# EAGLE library part MC34844-LED-DRIVER (library LCD Connectors)
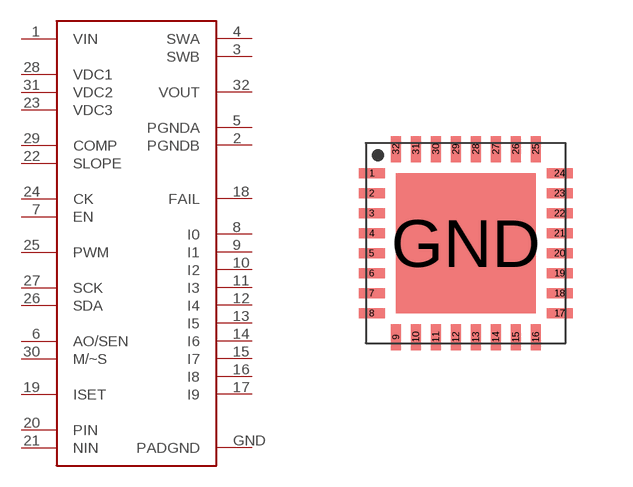
[diagram p3: symbol with the pads of QFN32; footprint QFN32]

Designator prefix U

## MC34844-LED-DRIVER  [QFN32]
1  VIN
2  PGNDB
3  SWB
4  SWA
5  PGNDA
6  AO/SEN
7  EN
8  I0
9  I1
10  I2
11  I3
12  I4
13  I5
14  I6
15  I7
16  I8
17  I9
18  FAIL
19  ISET
20  PIN
21  NIN
22  SLOPE
23  VDC3
24  CK
25  PWM
26  SDA
27  SCK
28  VDC1
29  COMP
30  M/~S
31  VDC2
32  VOUT
GND  PADGND

## Footprint QFN32 (pad centres in mm)
smd 0.65 x 0.25: 1 -2.35,1.75; 2 -2.35,1.25; 3 -2.35,0.75; 4 -2.35,0.25; 5 -2.35,-0.25; 6 -2.35,-0.75; 7 -2.35,-1.25; 8 -2.35,-1.75; 17 2.35,-1.75; 18 2.35,-1.25; 19 2.35,-0.75; 20 2.35,-0.25; 21 2.35,0.25; 22 2.35,0.75; 23 2.35,1.25; 24 2.35,1.75
smd 0.25 x 0.65: 9 -1.75,-2.35; 10 -1.25,-2.35; 11 -0.75,-2.35; 12 -0.25,-2.35; 13 0.25,-2.35; 14 0.75,-2.35; 15 1.25,-2.35; 16 1.75,-2.35; 25 1.75,2.35; 26 1.25,2.35; 27 0.75,2.35; 28 0.25,2.35; 29 -0.25,2.35; 30 -0.75,2.35; 31 -1.25,2.35; 32 -1.75,2.35
smd 3.5 x 3.5: GND 0,0